# Altium schematic symbol library RES,732R,0.1%,0.125W,0805.Schlib: 1 symbol
Pins are listed as number, name and electrical type; pins without a type are passive.

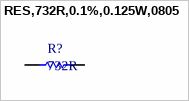
[diagram p0: symbol RES,732R,0.1%,0.125W,0805]

## RES,732R,0.1%,0.125W,0805
designator R?, comment 732R
732 ±0.1% 0.125W, 1/8W Chip Resistor 0805 (2012 Metric) Automotive AEC-Q200 Thin Film
pins: 1, 2